# EAGLE library part HT12A (library #PaJa_30)
IO pro DO - vysilac
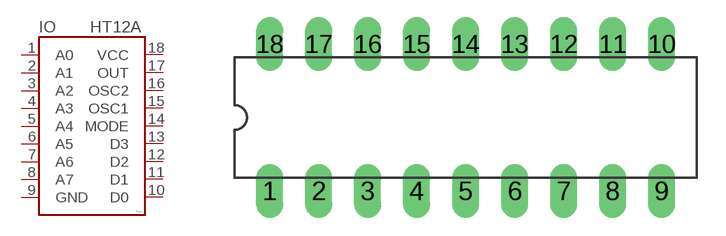
[diagram p15: symbol with the pads of DIL18A; footprint DIL18A]

Designator prefix IO

## HT12A  [DIL18A]
1  A0  pas
2  A1  pas
3  A2  pas
4  A3  pas
5  A4  pas
6  A5  pas
7  A6  pas
8  A7  pas
9  GND  sup
10  D0  pas
11  D1  pas
12  D2  pas
13  D3  pas
14  MODE  pas
15  OSC1  pas
16  OSC2  pas
17  OUT  pas
18  VCC  sup

## Footprint DIL18A (pad centres in mm)
drill 0.813 pad 1.4 long: 1 -10.16,-3.81; 2 -7.62,-3.81; 3 -5.08,-3.81; 4 -2.54,-3.81; 5 0,-3.81; 6 2.54,-3.81; 7 5.08,-3.81; 8 7.62,-3.81; 9 10.16,-3.81; 10 10.16,3.81; 11 7.62,3.81; 12 5.08,3.81; 13 2.54,3.81; 14 0,3.81; 15 -2.54,3.81; 16 -5.08,3.81; 17 -7.62,3.81; 18 -10.16,3.81